# EAGLE library part AS5055 (library austriamicrosystems)
Low Power 12 Bit Magnetic Rotary Encoder 4x4mm QFN16 package Source: AS5055_Datasheet_v1_1.pdf
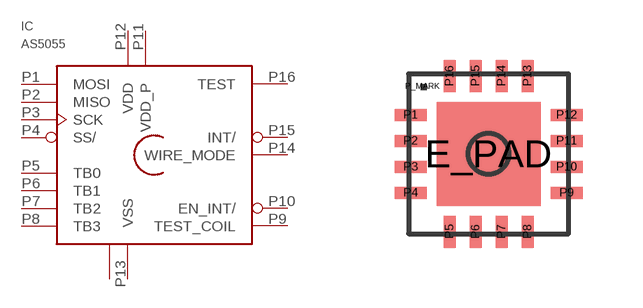
[diagram p2: symbol with the pads of QFN16; footprint QFN16]

Designator prefix IC

## AS5055  [QFN16]
E_PAD  E_PAD  nc
P1  MOSI  in
P2  MISO  out
P3  SCK  in
P4  SS/  in
P5  TB0  nc
P6  TB1  nc
P7  TB2  nc
P8  TB3  nc
P9  TEST_COIL  pwr
P10  EN_INT/
P11  VDD_P  pwr
P12  VDD  pwr
P13  VSS  pwr
P14  WIRE_MODE
P15  INT/
P16  TEST  nc

## Footprint QFN16 (pad centres in mm)
SMALL square INTEGRATED CIRCUIT wide body 4x4 mm
smd 2.6 x 2.6: E_PAD 0,0
smd 0.8 x 0.3: P1 -1.95,0.975; P2 -1.95,0.325; P3 -1.95,-0.325; P4 -1.95,-0.975; P9 1.95,-0.975; P10 1.95,-0.325; P11 1.95,0.325; P12 1.95,0.975
smd 0.3 x 0.8: P5 -0.975,-1.95; P6 -0.325,-1.95; P7 0.325,-1.95; P8 0.975,-1.95; P13 0.975,1.95; P14 0.325,1.95; P15 -0.325,1.95; P16 -0.975,1.95
smd 0.1 x 0.1: P_MARK -1.65,1.7